# EAGLE library part BTN7930 (library 2020-03-18-Lib)
BTN7930 20 A Half Bridge IN: PWM input EN: Sleep mode SR: Slew Rate IS: Current Sense
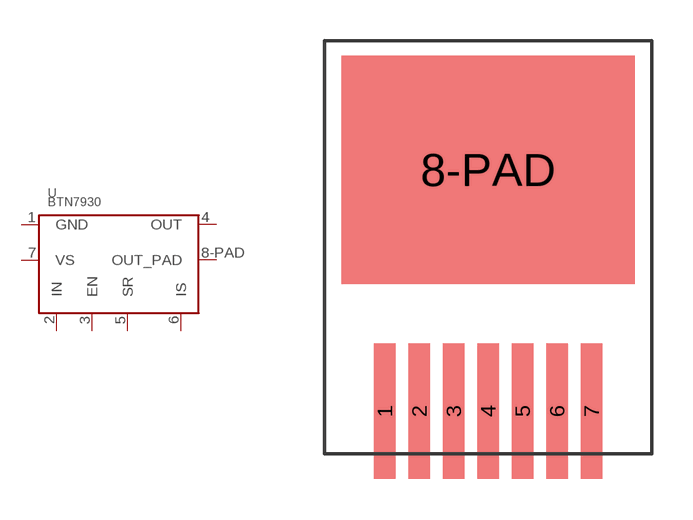
[diagram p1: symbol with the pads of TO263-7; footprint TO263-7]

Designator prefix -

## BTN7930TO263-7  [TO263-7]
1  GND  pwr
2  IN  in
3  EN  in
4  OUT  pwr
5  SR  in
6  IS  out
7  VS  pwr
8-PAD  OUT_PAD  pwr

## Footprint TO263-7 (pad centres in mm)
20A Half Bridge
smd 0.8 x 5: 1 -3.81,-2.54; 2 -2.54,-2.54; 3 -1.27,-2.54; 4 0,-2.54; 5 1.27,-2.54; 6 2.54,-2.54; 7 3.81,-2.54
smd 10.8 x 8.4: 8-PAD 0,6.35